# EAGLE library part JST-JMC-20P (library FaBo-PIN)
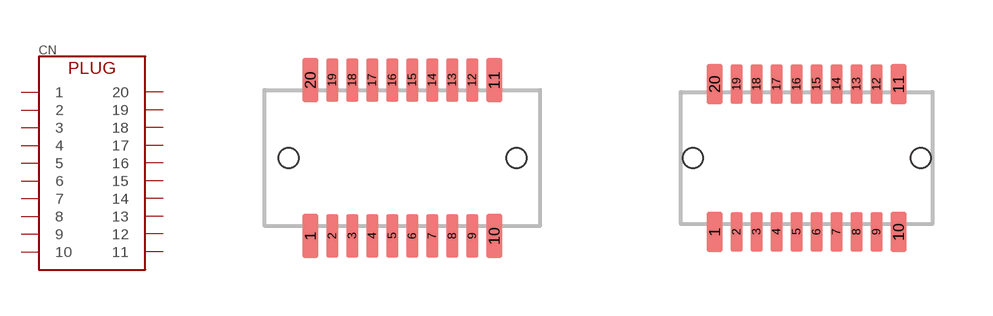
[diagram p12: symbol with the pads of 20P3.0-JMCS-G-B-TF; footprints 20P3.0-JMCS-G-B-TF, 20R-JMCS-G-B-TF]

Designator prefix CN

## JST-JMC-20P-PLUG_B  [20P3.0-JMCS-G-B-TF]
1  1
2  2
3  3
4  4
5  5
6  6
7  7
8  8
9  9
10  10
11  11
12  12
13  13
14  14
15  15
16  16
17  17
18  18
19  19
20  20

## JST-JMC-20P-RECEPT  [20R-JMCS-G-B-TF]
Pads as for 20P3.0-JMCS-G-B-TF

## Footprint 20P3.0-JMCS-G-B-TF (pad centres in mm)
smd 0.4 x 1.1: 1 -2.3,-1.95; 10 2.3,-1.95; 11 2.3,1.95; 20 -2.3,1.95
smd 0.3 x 1.1: 2 -1.75,-1.95; 3 -1.25,-1.95; 4 -0.75,-1.95; 5 -0.25,-1.95; 6 0.25,-1.95; 7 0.75,-1.95; 8 1.25,-1.95; 9 1.75,-1.95; 12 1.75,1.95; 13 1.25,1.95; 14 0.75,1.95; 15 0.25,1.95; 16 -0.25,1.95; 17 -0.75,1.95; 18 -1.25,1.95; 19 -1.75,1.95
hole 0.5 at -2.85,0
hole 0.5 at 2.85,0

## Footprint 20R-JMCS-G-B-TF (pad centres in mm)
smd 0.4 x 1: 1 -2.3,-1.85; 10 2.3,-1.85; 11 2.3,1.85; 20 -2.3,1.85
smd 0.3 x 1: 2 -1.75,-1.85; 3 -1.25,-1.85; 4 -0.75,-1.85; 5 -0.25,-1.85; 6 0.25,-1.85; 7 0.75,-1.85; 8 1.25,-1.85; 9 1.75,-1.85; 12 1.75,1.85; 13 1.25,1.85; 14 0.75,1.85; 15 0.25,1.85; 16 -0.25,1.85; 17 -0.75,1.85; 18 -1.25,1.85; 19 -1.75,1.85
hole 0.5 at -2.85,0
hole 0.5 at 2.85,0